# Altium schematic symbol library Schlib.SchLib: 33 symbols
Pins are listed as number, name and electrical type; pins without a type are passive.

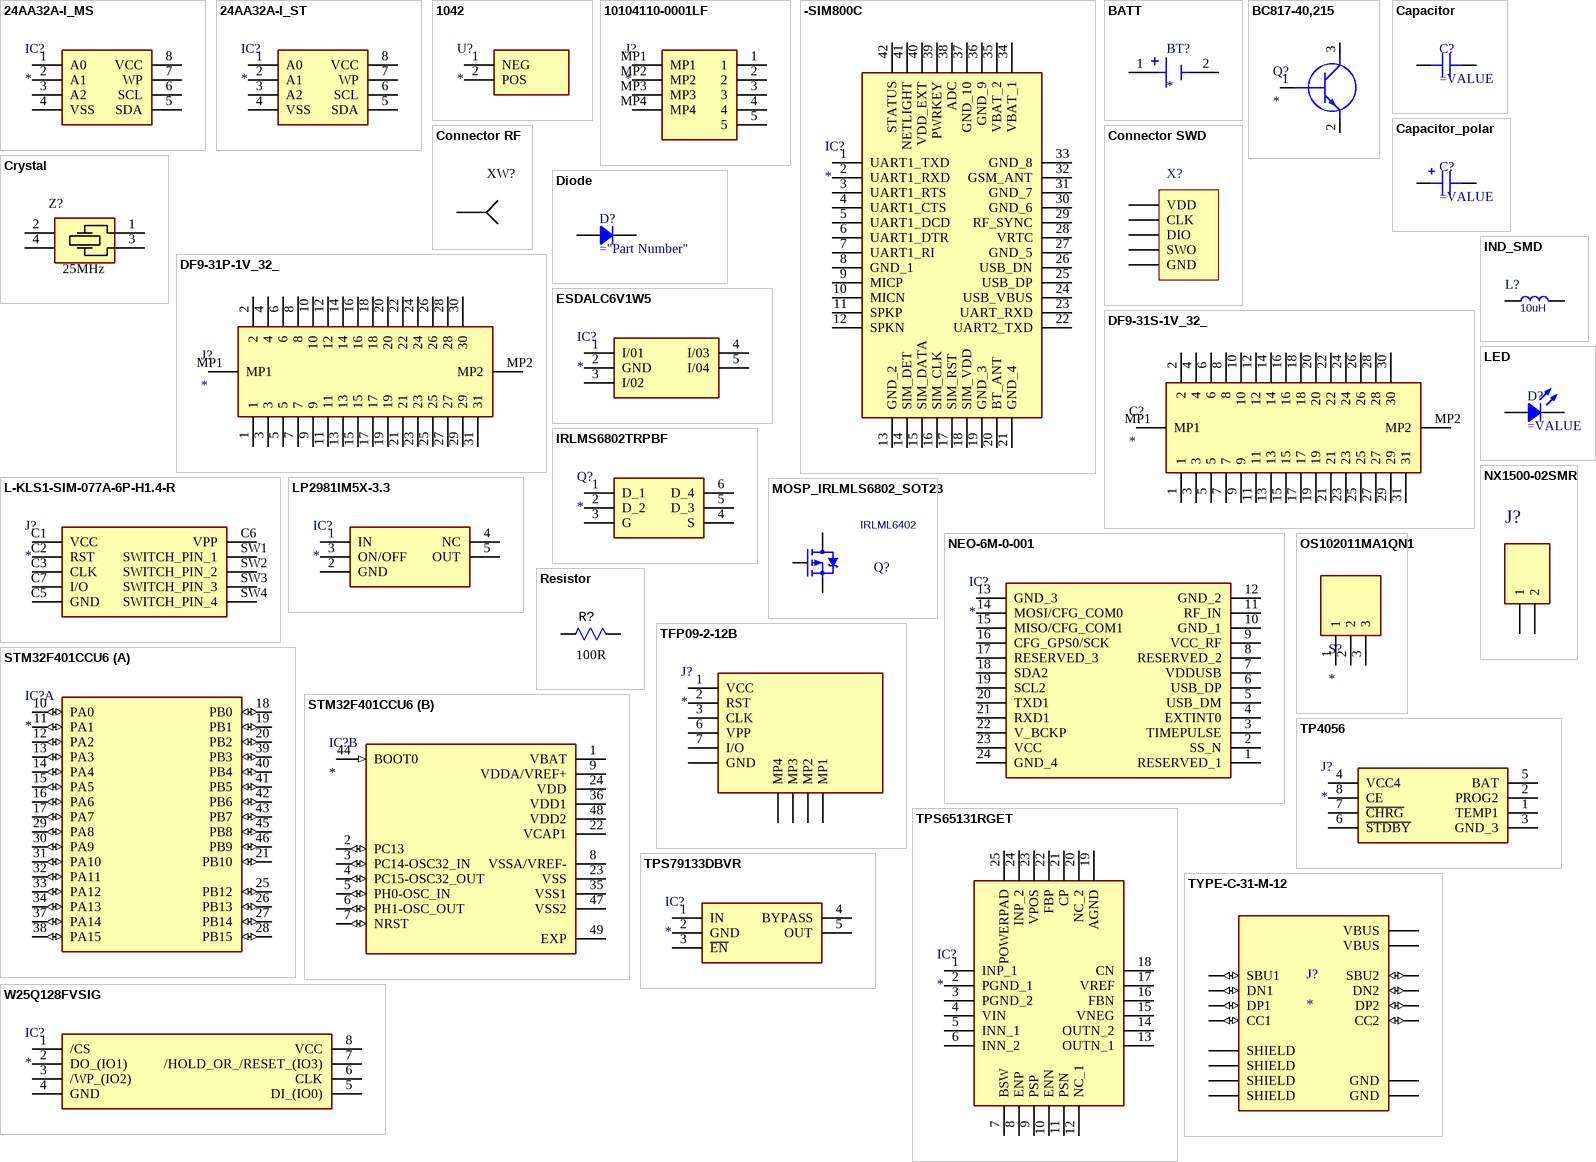
[diagram p0: symbols 24AA32A-I_MS to W25Q128FVSIG]

## 24AA32A-I_MS
designator IC?
Integrated Circuit; Manufacturer_Name: Microchip; Manufacturer_Part_Number: 24AA32A-I/MS; Datasheet Link: http://ww1.microchip.com/downloads/en/DeviceDoc/21713M.pdf; Height: 1.1mm; Mouser Part Number: 579-24AA32A-I/MS; Mouser Price/Stock: https://www.mouser.co.uk/ProductDetail/Microchip-Technology/24AA32A-I-MS?qs=Vn0zuzr35GEHiya3TShw1Q%3D%3D; Arrow Part Number: 24AA32A-I/MS; Arrow Price/Stock: https://www.arrow.com/en/products/24aa32a-ims/microchip-technology
footprint SOP65P490X110-8N
pins: 1 A0, 2 A1, 3 A2, 4 VSS, 5 SDA, 6 SCL, 7 WP, 8 VCC

## 24AA32A-I_ST
designator IC?
Integrated Circuit; Manufacturer_Name: Microchip; Manufacturer_Part_Number: 24AA32A-I/ST; Datasheet Link: http://ww1.microchip.com/downloads/en/DeviceDoc/21713M.pdf; Height: 1.2mm; Mouser Part Number: 579-24AA32A-I/ST; Mouser Price/Stock: https://www.mouser.co.uk/ProductDetail/Microchip-Technology/24AA32A-I-ST/?qs=z30FE1aq6wbUu0ZQUmtPYw%3D%3D; Arrow Part Number: 24AA32A-I/ST; Arrow Price/Stock: https://www.arrow.com/en/products/24aa32a-ist/microchip-technology?region=nac
footprint SOP65P640X120-8N
pins: 1 A0, 2 A1, 3 A2, 4 VSS, 5 SDA, 6 SCL, 7 WP, 8 VCC

## 1042
designator U?
Undefined or Miscellaneous; Manufacturer_Name: Keystone Electronics; Manufacturer_Part_Number: 1042; Datasheet Link: http://www.mouser.com/ds/2/215/042-744829.pdf; Mouser Part Number: 534-1042; Mouser Price/Stock: https://www.mouser.co.uk/ProductDetail/Keystone-Electronics/1042?qs=%2F7TOpeL5Mz4qPdWi9tuLKw%3D%3D
footprint KEYSTONE-1042
pins: 1 NEG, 2 POS

## 10104110-0001LF
designator J?
Connector; Manufacturer_Name: Amphenol; Manufacturer_Part_Number: 10104110-0001LF; Datasheet Link: https://componentsearchengine.com/Datasheets/1/10104110-0001LF.pdf; Height: 2.98mm; Mouser Part Number: 649-10104110-0001LF; Mouser Price/Stock: https://www.mouser.co.uk/ProductDetail/Amphenol-FCI/10104110-0001LF?qs=3wMSRtz0%252BRoQF1VV4tle7w%3D%3D; Arrow Part Number: 10104110-0001LF; Arrow Price/Stock: https://www.arrow.com/en/products/10104110-0001lf/amphenol-fci?region=nac
footprint 101041100001LF
pins: 1, 2, 3, 4, 5, MP1, MP2, MP3, MP4

## -SIM800C
designator IC?
Integrated Circuit; Manufacturer_Name: SIMCOM; Manufacturer_Part_Number: -SIM800C; Datasheet Link: https://datasheet.lcsc.com/szlcsc/SIMCom-Wireless-Solutions-SIM800C-24Mbit_C69119.pdf
footprint SIM800C
pins: 1 UART1_TXD, 2 UART1_RXD, 3 UART1_RTS, 4 UART1_CTS, 5 UART1_DCD, 6 UART1_DTR, 7 UART1_RI, 8 GND_1, 9 MICP, 10 MICN, 11 SPKP, 12 SPKN, 13 GND_2, 14 SIM_DET, 15 SIM_DATA, 16 SIM_CLK, 17 SIM_RST, 18 SIM_VDD, 19 GND_3, 20 BT_ANT, 21 GND_4, 22 UART2_TXD, 23 UART_RXD, 24 USB_VBUS, 25 USB_DP, 26 USB_DN, 27 GND_5, 28 VRTC, 29 RF_SYNC, 30 GND_6, 31 GND_7, 32 GSM_ANT, 33 GND_8, 34 VBAT_1, 35 VBAT_2, 36 GND_9, 37 GND_10, 38 ADC, 39 PWRKEY, 40 VDD_EXT, 41 NETLIGHT, 42 STATUS

## BATT
designator BT?
BATTERY; MP: BH123A; MF: MPD; Availability: Unavailable; Package: None; Value: *; Price: None; SnapEDA_Link: https://www.snapeda.com/parts/BH123A/MPD/view-part/4389037/?ref=snap
footprint BAT_BH123A
footprint KEYSTONE-1042
footprint CON: HOLDER 18650 x1
pins: 1 POS, 2 NEG

## BC817-40,215
designator Q?
Transistor BJT NPN; Manufacturer_Name: Nexperia; Manufacturer_Part_Number: BC817-40,215; Datasheet Link: https://assets.nexperia.com/documents/data-sheet/BC817_SER.pdf; Height: 1.1mm; Mouser Part Number: 771-BC817-40-T/R; Mouser Price/Stock: https://www.mouser.co.uk/ProductDetail/Nexperia/BC817-40215?qs=me8TqzrmIYU%252B245p8hOLaQ%3D%3D; Arrow Part Number: BC817-40,215; Arrow Price/Stock: https://www.arrow.com/en/products/bc817-40215/nexperia?region=nac
footprint BC81740215
pins: 1 B, 2 E, 3 C

## Capacitor
designator C?
SMD Capacitor
footprint CAP: 0603
footprint CAP: 0805
footprint CAP: 1206
pins: 1, 2

## Capacitor_polar
designator C?
SMD Capacitor Polar
footprint CAP: TANTAL-A
footprint CAP: TANTAL-B
footprint CAP: TANTAL-C
footprint CAP: TANTAL-D
footprint CAP: IONISTOR
pins: 1, 2

## Connector RF
designator XW?
footprint ANT_HOLE
footprint CON: U.FL
footprint ANT: PCB
footprint CON: SMA EDGE MOUNT
pins: 1 SIG

## Connector SWD
designator X?
SWD Interface
footprint CON: PLS-4R (PLS-4R 4 pin header)
footprint CON: PLD-10
footprint CON: PLS-4 (PLS-40 4 pin header)
pins: 1 VDD, 2 CLK, 3 GND, 4 DIO, 5 SWO

## Crystal
designator Z?  Frequency: 25MHz
Manufacturer: Murata Electronics; PartNumber: XRCGB25M000F0L00R0; ValueManufacturerPartNumber: Crystal, 25MHz, 6pF, ±50ppm, case 2016, -30...+85°C; TypeOscilator: Crystal; LoadCapacitance: 6pF; Tolerance: ±50ppm; Package: case 2016; HelpURL: https://www.digikey.com/product-detail/en/murata-electronics-north-america/XRCGB25M000F0L00R0/490-5577-1-ND/2368391; Temperature: -30...+85°C
footprint OSC: 3225
pins: 1, 2, 3, 4

## DF9-31P-1V_32_
designator J?
Connector; Manufacturer_Name: Hirose; Manufacturer_Part_Number: DF9-31P-1V(32); Datasheet Link: https://datasheet.datasheetarchive.com/originals/distributors/SFDatasheet-7/sf-000141250.pdf; Height: 3.5mm; Mouser Part Number: 798-DF9-31P-1V32; Mouser Price/Stock: https://www.mouser.co.uk/ProductDetail/Hirose-Connector/DF9-31P-1V32?qs=zOgoZG1CgI9P5hPtT7oVcw%3D%3D; Arrow Part Number: DF9-31P-1V(32); Arrow Price/Stock: https://www.arrow.com/en/products/df9-31p-1v-32/hirose-electric
footprint DF931P1V32
pins: 1, 2, 3, 4, 5, 6, 7, 8, 9, 10, 11, 12, 13, 14, 15, 16, 17, 18, 19, 20, 21, 22, 23, 24, 25, 26, 27, 28, 29, 30, 31, MP1, MP2

## DF9-31S-1V_32_
designator C?
Connector; Manufacturer_Name: Hirose; Manufacturer_Part_Number: DF9-31S-1V(32); Datasheet Link: http://www.mouser.com/ds/2/185/DF9_catalog-939217.pdf; Height: 3.3mm; Mouser Part Number: 798-DF9-31S-1V32; Mouser Price/Stock: https://www.mouser.co.uk/ProductDetail/Hirose-Connector/DF9-31S-1V32?qs=zOgoZG1CgI88k8P2oY2QVw%3D%3D; Arrow Part Number: DF9-31S-1V(32); Arrow Price/Stock: https://www.arrow.com/en/products/df9-31s-1v-32/hirose-electric
footprint DF931S1V32
pins: 1, 2, 3, 4, 5, 6, 7, 8, 9, 10, 11, 12, 13, 14, 15, 16, 17, 18, 19, 20, 21, 22, 23, 24, 25, 26, 27, 28, 29, 30, 31, MP1, MP2

## Diode
designator D?
Rectifier Diode
footprint DIODE: SMA
footprint DIODE: SOD123
pins: 1, 2

## ESDALC6V1W5
designator IC?
Integrated Circuit; Manufacturer_Name: STMicroelectronics; Manufacturer_Part_Number: ESDALC6V1W5; Datasheet Link: http://www.st.com/web/en/resource/technical/document/datasheet/CD00002946.pdf; Height: 1.1mm; Mouser Part Number: 511-ESDALC6V1W5; Mouser Price/Stock: https://www.mouser.co.uk/ProductDetail/STMicroelectronics/ESDALC6V1W5?qs=C%2FEejvvdwQ4xcyFnfrFaDw%3D%3D; Arrow Part Number: ESDALC6V1W5; Arrow Price/Stock: https://www.arrow.com/en/products/esdalc6v1w5/stmicroelectronics?region=nac
footprint SOT65P210X110-5N
pins: 1 I/01, 2 GND, 3 I/02, 4 I/03, 5 I/04

## IND_SMD
designator L?, comment 10uH
INDUCTOR, SMD; VALUE: 10uH
footprint IND: 0805
pins: 1, 2

## IRLMS6802TRPBF
designator Q?
MOSFET (P-Channel); Manufacturer_Name: Infineon; Manufacturer_Part_Number: IRLMS6802TRPBF; Datasheet Link: https://www.infineon.com/dgdl/irlms6802pbf.pdf?fileId=5546d462533600a401535669349a2654; Height: 1.3mm; Mouser Part Number: 942-IRLMS6802TRPBF; Mouser Price/Stock: https://www.mouser.co.uk/ProductDetail/Infineon-IR/IRLMS6802TRPBF?qs=9%252BKlkBgLFf3%252B6QUsVmNV1g%3D%3D; Arrow Part Number: IRLMS6802TRPBF; Arrow Price/Stock: https://www.arrow.com/en/products/irlms6802trpbf/infineon-technologies-ag
footprint SOT95P280X130-6N
pins: 1 D_1, 2 D_2, 3 G, 4 S, 5 D_3, 6 D_4

## L-KLS1-SIM-077A-6P-H1.4-R
designator J?
Connector; Manufacturer_Name: KLS Electronic; Manufacturer_Part_Number: L-KLS1-SIM-077A-6P-H1.4-R; Datasheet Link: http://www.klsele.com/admin/product_upload/20190123112744L-KLS1-SIM-077A-6P-H1.4-R--.pdf; Height: 1.45mm
footprint LKLS1SIM077A6PH14R
pins: C1 VCC, C2 RST, C3 CLK, C5 GND, C6 VPP, C7 I/O, SW1 SWITCH_PIN_1, SW2 SWITCH_PIN_2, SW3 SWITCH_PIN_3, SW4 SWITCH_PIN_4

## LED
designator D?
Chip LED
footprint LED 0603_1608 (Chip Diode, 2-Leads, Body 1.60x0.80mm, IPC Medium Density)
footprint LED0805 (LED SMD 0805, WHITE)
pins: 1, 2

## LP2981IM5X-3.3
designator IC?
Integrated Circuit; Manufacturer_Name: Texas Instruments; Manufacturer_Part_Number: LP2981IM5X-5.0; Datasheet Link: https://www.ti.com/lit/ds/symlink/lp2981-n.pdf?ts=1629199672850&ref_url=https%253A%252F%252Fwww.ti.com%252Fstore%252Fti%252Fen%252Fp%252Fproduct%252F%253Fp%253DLP2981IM5X-5.0%252FNOPB; Height: 1.45mm; Mouser Part Number: 926-LP2981IM5X-50; Mouser Price/Stock: https://www.mouser.com/Search/Refine.aspx?Keyword=926-LP2981IM5X-50
footprint SOT95P280X145-5N
pins: 1 IN, 2 GND, 3 ON/OFF, 4 NC, 5 OUT

## MOSP_IRLMLS6802_SOT23
designator Q?, comment IRLML6402
P-Channel Enhancement Mode MOSFET; ASSEMBLY: ASSEMBLY; MANF_P#: IRLML6402; VALUE: IRLML6402
footprint SOT95P280X130-6N
pins: 1 D, 2 D, 3 G, 4 S, 5 D, 6 D

## NEO-6M-0-001
designator IC?
Integrated Circuit; Manufacturer_Name: U-Blox; Manufacturer_Part_Number: NEO-6M-0-001; Datasheet Link: https://www.u-blox.com/sites/default/files/products/documents/NEO-6_DataSheet_%28GPS.G6-HW-09005%29.pdf; Height: 2.6mm
footprint NEO6M0001
pins: 1 RESERVED_1, 2 SS_N, 3 TIMEPULSE, 4 EXTINT0, 5 USB_DM, 6 USB_DP, 7 VDDUSB, 8 RESERVED_2, 9 VCC_RF, 10 GND_1, 11 RF_IN, 12 GND_2, 13 GND_3, 14 MOSI/CFG_COM0, 15 MISO/CFG_COM1, 16 CFG_GPS0/SCK, 17 RESERVED_3, 18 SDA2, 19 SCL2, 20 TXD1, 21 RXD1, 22 V_BCKP, 23 VCC, 24 GND_4

## NX1500-02SMR
designator J?  (value not drawn)
footprint NX1500-02SMR
pins: 1, 2

## OS102011MA1QN1
designator S?
Switch; Manufacturer_Name: C & K COMPONENTS; Manufacturer_Part_Number: OS102011MA1QN1; Datasheet Link: http://www.ckswitches.com/media/1428/os.pdf; Mouser Part Number: 611-OS102011MA1QN1; Mouser Price/Stock: https://www.mouser.co.uk/ProductDetail/CK/OS102011MA1QN1?qs=WtljUlYws5R6MUgHcLkz4w%3D%3D; Arrow Part Number: OS102011MA1QN1; Arrow Price/Stock: https://www.arrow.com/en/products/os102011ma1qn1/ck?region=europe
footprint OS102011MA1QN1
pins: 1, 2, 3

## Resistor
designator R?  value 100R
Manufacturer: Yageo; PartNumber: RC0201JR-07100RL; TypeResistor: Resistor film; Power: 0.05W; Package: 0201; HelpURL: https://www.digikey.com/product-detail/en/yageo/RC0201JR-07100RL/311-100NCT-ND/1949006; ValueManufacturerPartNumber: =TypeResistor+', '+Value+', '+Tolerance+', '+Package+', '+Power+', '+Temperature; Temperature: -55...+125°C
footprint RES: 0603
footprint RES: 0805
pins: 1, 2

## STM32F401CCU6
designator IC?
Integrated Circuit; Manufacturer_Name: STMicroelectronics; Manufacturer_Part_Number: STM32F401CCU6; Datasheet Link: http://www.st.com/web/en/resource/technical/document/datasheet/DM00086815.pdf; Height: 0.6mm; Mouser Part Number: 511-STM32F401CCU6; Mouser Price/Stock: https://www.mouser.co.uk/ProductDetail/STMicroelectronics/STM32F401CCU6?qs=DqCdCwOw4%2F5VrOZQxO795A%3D%3D; Arrow Part Number: STM32F401CCU6; Arrow Price/Stock: https://www.arrow.com/en/products/stm32f401ccu6/stmicroelectronics?region=nac
footprint QFN50P700X700X60-49N-D
part A pins: 10 PA0 (io), 11 PA1 (io), 12 PA2 (io), 13 PA3 (io), 14 PA4 (io), 15 PA5 (io), 16 PA6 (io), 17 PA7 (io), 18 PB0 (io), 19 PB1 (io), 20 PB2 (io), 21 PB10 (io), 25 PB12 (io), 26 PB13 (io), 27 PB14 (io), 28 PB15 (io), 29 PA8 (io), 30 PA9 (io), 31 PA10 (io), 32 PA11 (io), 33 PA12 (io), 34 PA13 (io), 37 PA14 (io), 38 PA15 (io), 39 PB3 (io), 40 PB4 (io), 41 PB5 (io), 42 PB6 (io), 43 PB7 (io), 45 PB8 (io), 46 PB9 (io)
part B pins: 1 VBAT (power), 2 PC13 (io), 3 PC14-OSC32_IN (io), 4 PC15-OSC32_OUT (io), 5 PH0-OSC_IN (io), 6 PH1-OSC_OUT (io), 7 NRST (io), 8 VSSA/VREF- (power), 9 VDDA/VREF+ (power), 22 VCAP1 (power), 23 VSS (power), 24 VDD (power), 35 VSS1 (power), 36 VDD1 (power), 44 BOOT0 (in), 47 VSS2 (power), 48 VDD2 (power), 49 EXP (power)

## TFP09-2-12B
designator J?
Connector; Manufacturer_Name: 100y; Manufacturer_Part_Number: TFP09-2-12B; Datasheet Link: http://images.100y.com.tw/pdf_file/10-TFP09-2-12B.pdf; Height: 2.45mm
footprint SIMHOLDER
pins: 1 VCC (power), 2 RST, 3 CLK, 5 GND (power), 6 VPP, 7 I/O, MP1, MP2, MP3, MP4

## TP4056
designator J?
Connector; Manufacturer_Name: NanJing Top Power; Manufacturer_Part_Number: TP4056; Datasheet Link: https://dlnmh9ip6v2uc.cloudfront.net/datasheets/Prototyping/TP4056.pdf; Height: 1.75mm
footprint SOIC127P600X175-9N
pins: 1 TEMP1, 2 PROG2, 3 GND_3, 4 VCC4, 5 BAT, 6 ~{STDBY}, 7 ~{CHRG}, 8 CE

## TPS65131RGET
designator IC?
Integrated Circuit; Manufacturer_Name: Texas Instruments; Manufacturer_Part_Number: TPS65131RGET; Description: Conv DC-DC Dual-OUT Inv/Step Up 24-Pin Texas Instruments TPS65131RGET; Datasheet Link: http://www.ti.com/lit/ds/symlink/tps65130.pdf; Height: 1mm; Mouser Part Number: 595-TPS65131RGET; Mouser Price/Stock: https://www.mouser.co.uk/ProductDetail/Texas-Instruments/TPS65131RGET?qs=Gse6rAGbi7%2FStiVl23F5Fg%3D%3D; Arrow Part Number: TPS65131RGET; Arrow Price/Stock: https://www.arrow.com/en/products/tps65131rget/texas-instruments?region=nac
footprint QFN50P400X400X100-25N
pins: 1 INP_1, 2 PGND_1, 3 PGND_2, 4 VIN, 5 INN_1, 6 INN_2, 7 BSW, 8 ENP, 9 PSP, 10 ENN, 11 PSN, 12 NC_1, 13 OUTN_1, 14 OUTN_2, 15 VNEG, 16 FBN, 17 VREF, 18 CN, 19 AGND, 20 NC_2, 21 CP, 22 FBP, 23 VPOS, 24 INP_2, 25 POWERPAD

## TPS79133DBVR
designator IC?
Integrated Circuit; Manufacturer_Name: Texas Instruments; Manufacturer_Part_Number: TPS79133DBVR; Datasheet Link: https://datasheet.lcsc.com/szlcsc/Texas-Instruments-TI-TPS79133DBVR_C9838.pdf; Height: 1.45mm; Mouser Part Number: 595-TPS79133DBVR; Mouser Price/Stock: https://www.mouser.co.uk/ProductDetail/Texas-Instruments/TPS79133DBVR?qs=tJ5HNKWh3OXEQKJOaYvX6A%3D%3D; Arrow Part Number: TPS79133DBVR; Arrow Price/Stock: https://www.arrow.com/en/products/tps79133dbvr/texas-instruments?region=nac
footprint SOT95P280X145-5N
pins: 1 IN, 2 GND, 3 ~{EN}, 4 BYPASS, 5 OUT

## TYPE-C-31-M-12
designator J?
USB Connectors 24 Receptacle 1 8.94*7.3mm RoHS; MP: TYPE-C-31-M-12; Package: None; Availability: Unavailable; Value: *; Price: None
footprint HRO_TYPE-C-31-M-12
pins: A1B12 GND (power), A4B9 VBUS (power), A5 CC1 (io), A6 DP1 (io), A7 DN1 (io), A8 SBU1 (io), B1A12 GND (power), B4A9 VBUS (power), B5 CC2 (io), B6 DP2 (io), B7 DN2 (io), B8 SBU2 (io), S1 SHIELD, S2 SHIELD, S3 SHIELD, S4 SHIELD

## W25Q128FVSIG
designator IC?
Integrated Circuit; Manufacturer_Name: Winbond; Manufacturer_Part_Number: W25Q128FVSIG; Datasheet Link: https://www.winbond.com/resource-files/w25q128fv rev.m 05132016 kms.pdf; Height: 2.16mm; Mouser Part Number: N/A; Mouser Price/Stock: https://www.mouser.co.uk/ProductDetail/Winbond/W25Q128FVSIG?qs=rkhjVJ6%2F3EIwu4pV702YLQ%3D%3D; Arrow Part Number: W25Q128FVSIG; Arrow Price/Stock: https://www.arrow.com/en/products/w25q128fvsig/winbond-electronics
footprint SOIC127P790X216-8N
pins: 1 /CS, 2 DO_(IO1), 3 /WP_(IO2), 4 GND, 5 DI_(IO0), 6 CLK, 7 /HOLD_OR_/RESET_(IO3), 8 VCC